# EAGLE library part MIC4420 (library Fitch_Eagle_Library)
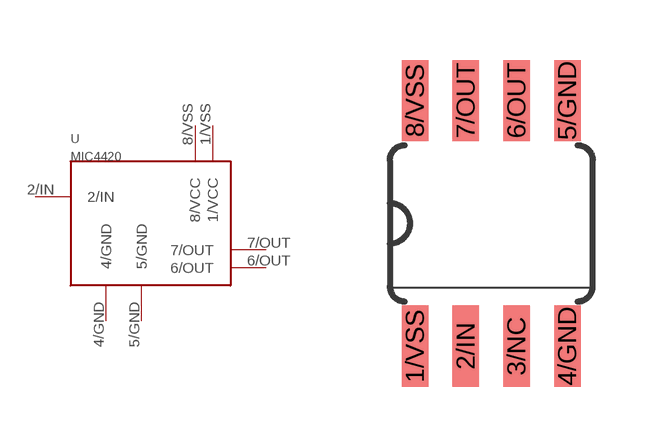
[diagram p9: symbol with the pads of MIC4420; footprint MIC4420]

Designator prefix -

## MIC4420  [MIC4420]
1/VSS  1/VCC
2/IN  2/IN
4/GND  4/GND
5/GND  5/GND
6/OUT  6/OUT
7/OUT  7/OUT
8/VSS  8/VCC

## Footprint MIC4420 (pad centres in mm)
smd 0.66 x 2.032: 1/VSS -1.905,-3.073; 2/IN -0.635,-3.073; 3/NC 0.635,-3.073; 4/GND 1.905,-3.073; 5/GND 1.905,3.073; 6/OUT 0.635,3.073; 7/OUT -0.635,3.073; 8/VSS -1.905,3.073